# Altium footprint library IRM-15-24.PcbLib: 1 footprints
Each footprint in its own frame and in the unit in brackets; x right, y up, seen from the top. Pads: shape width x height; smd on the part's side, far side on the other; paste and mask are expansions set on the pad; w line width, h text height; cw(c..) or ccw(c..) is an arc to the next point about the centre after c.
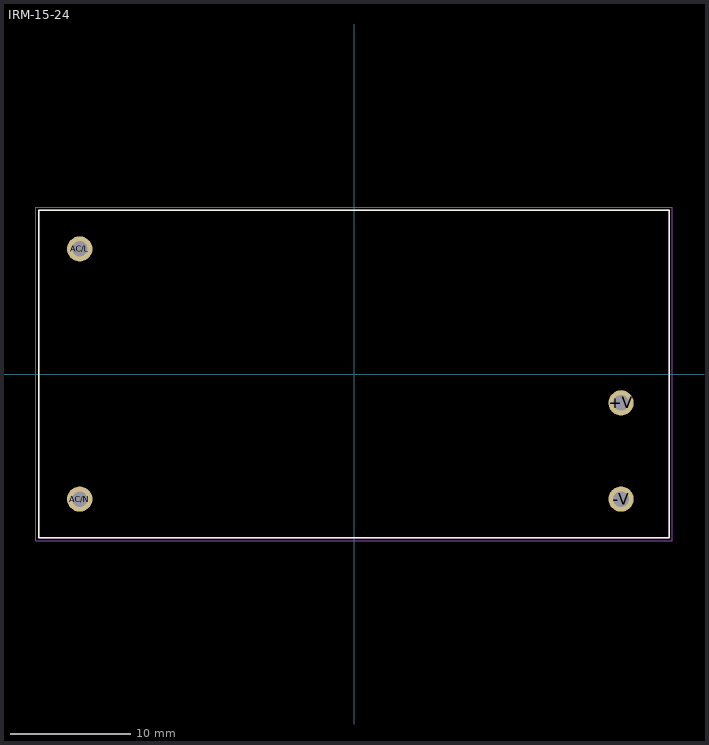
[diagram p0: the footprint, top view; thin cyan lines are the x and y axes]

## IRM-15-24 [mm]
height 24
pads (4):
  round 2.1 hole 1.3: +V(22.2,-2.4) -V(22.2,-10.4) AC/L(-22.8,10.4) AC/N(-22.8,-10.4)
Top Overlay:
  lines w0.127: -26.2,-13.6 -26.2,13.6 26.2,13.6 26.2,-13.6 -26.2,-13.6
Mechanical 15:
  lines w0.05: -26.45,-13.85 26.45,-13.85 26.45,13.85 -26.45,13.85 -26.45,-13.85
Mechanical 16:
  lines w0.127: -26.2,-13.6 -26.2,13.6 26.2,13.6 26.2,-13.6 -26.2,-13.6
3D body "IRM-15-5--3DModel.STEP": height 24, standoff -3.6, extent -26.162,-13.611 26.238,13.589